# EAGLE library part CD40257 (library ruark2)
Multiplexer 4 x 1:2 16-SOIC
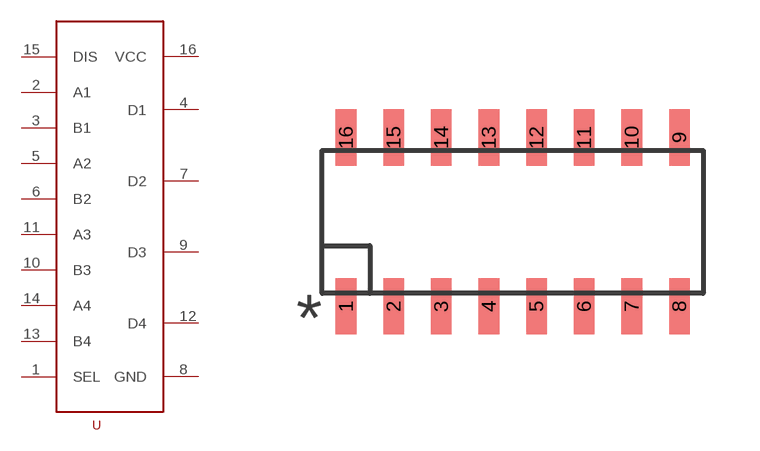
[diagram p9: symbol with the pads of SOIC16; footprint SOIC16]

Designator prefix U

## CD40257 (PARTNO: 296-32875-5-ND)  [SOIC16]
1  SEL
2  A1
3  B1
4  D1
5  A2
6  B2
7  D2
8  GND
9  D3
10  B3
11  A3
12  D4
13  B4
14  A4
15  DIS
16  VCC

## Footprint SOIC16 (pad centres in mm)
smd 0.549 x 1.499: 1 -4.445,-2.25; 2 -3.175,-2.25; 3 -1.905,-2.25; 4 -0.635,-2.25; 5 0.635,-2.25; 6 1.905,-2.25; 7 3.175,-2.25; 8 4.445,-2.25; 9 4.445,2.25; 10 3.175,2.25; 11 1.905,2.25; 12 0.635,2.25; 13 -0.635,2.25; 14 -1.905,2.25; 15 -3.175,2.25; 16 -4.445,2.25